# Altium integrated library Intersil RF and IF Modulator.IntLib: 1 symbol
Pins are listed as number, name and electrical type; pins without a type are passive.

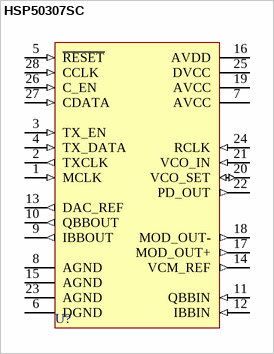
[diagram p0: symbol HSP50307SC]

## HSP50307SC
designator U?
Burst QPSK Modulator; Published: 17-Jul-2002; LatestRevisionDate: 13-Apr-2006; LatestRevisionNote: IPC-7351 Footprint Added.; DatasheetVersion: Dec-1996; PackageVersion: Dec-1993; PackageReference: M28.3; Publisher: Altium Limited; PackageDescription: 28-Pin Small Outline Integrated Circuit 1.27 mm Pitch; ComponentLink1Description: Manufacturer Link; ComponentLink1URL: http://www.intersil.com/cda/home/
footprint M28.3_N (SOIC, 28-Leads, Body 17.9x7.5mm, Pitch 1.27mm, IPC Medium Density)
footprint M28.3_L (SOIC, 28-Leads, Body 17.9x7.5mm, Pitch 1.27mm, IPC High Density)
footprint M28.3_M (SOIC, 28-Leads, Body 17.9x7.5mm, Pitch 1.27mm, IPC Low Density)
3D model M28_3 (28-Pin Small Outline Integrated Circuit 1.27 mm Pitch)
pins: 1 MCLK (in), 2 TXCLK (out), 3 TX_EN (in), 4 TX_DATA (in), 5 ~{RESET} (in), 6 DGND (power), 7 AVCC (power), 8 AGND (power), 9 IBBOUT (out), 10 QBBOUT (out), 11 QBBIN (in), 12 IBBIN (in), 13 DAC_REF (out), 14 VCM_REF (out), 15 AGND (power), 16 AVDD (power), 17 MOD_OUT+ (out), 18 MOD_OUT- (out), 19 AVCC (power), 20 VCO_SET (io), 21 VCO_IN (in), 22 PD_OUT (out), 23 AGND (power), 24 RCLK (in), 25 DVCC (power), 26 C_EN (in), 27 CDATA (in), 28 CCLK (in)